# Altium footprint library STM32F407ZGT6_CORE_BOARD.PcbLib: 21 footprints (part 2 of 2)
Each footprint in its own frame and in the unit in brackets; x right, y up, seen from the top. Pads: shape width x height; smd on the part's side, far side on the other; paste and mask are expansions set on the pad; w line width, h text height; cw(c..) or ccw(c..) is an arc to the next point about the centre after c.
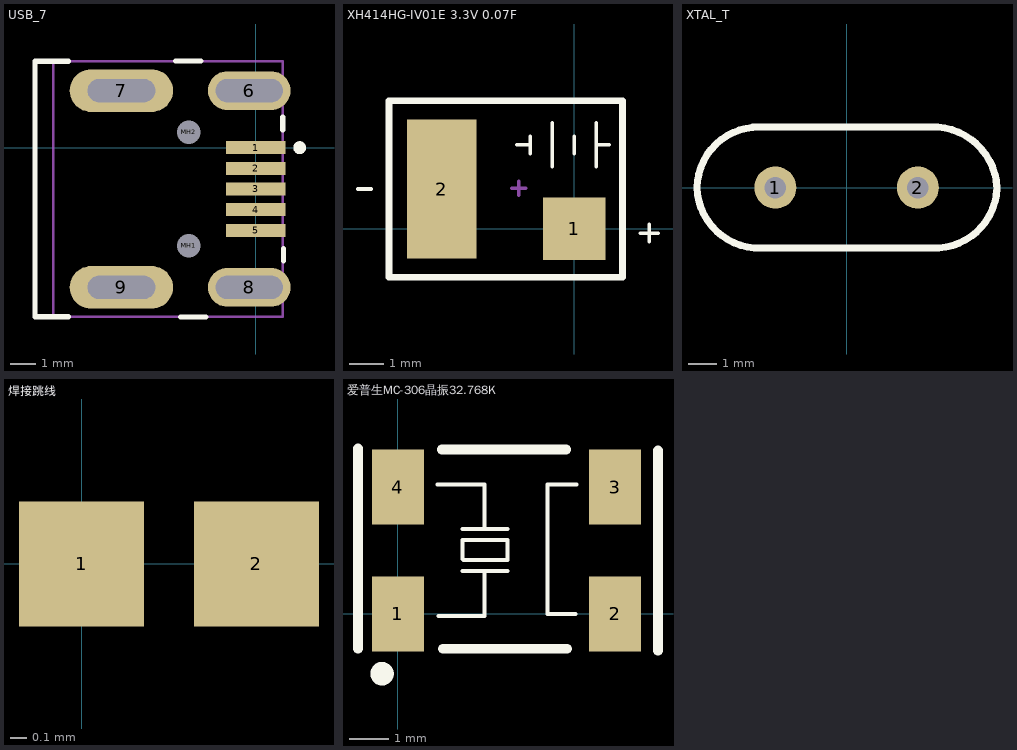
[diagram p1: the footprints below, top view; thin cyan lines are the x and y axes]

## USB_7 [mm] "4个条形过孔固定"
pads (11):
  rect 2.3x0.5 smd: 1(0,0) 2(0,-0.8) 3(0,-1.6) 4(0,-2.4) 5(0,-3.2)
  oval 3.2x1.5 hole 0.9 slot 2.6 at 0 deg: 6(-0.254,2.21) 8(-0.254,-5.41)
  oval 4x1.65 hole 0.9 slot 2.616 at 0 deg: 7(-5.207,2.21) 9(-5.207,-5.41)
  round 0.6 hole 0.9 unplated: MH1(-2.6,-3.8) MH2(-2.6,0.6)
Top Overlay:
  circle w0.25: c1.7,0 r0.125
  lines w0.2: -7.25,-6.55 -8.55,-6.55 -8.55,3.35 -7.25,3.35 ; -3.099,3.353 -2.134,3.353 ; -2.921,-6.553 -1.93,-6.553 ; 1.041,0.686 1.041,1.194 ; 1.067,-4.394 1.067,-3.912
Mechanical 1:
  lines w0.1: -7.85,-6.55 -7.85,3.35
  text "PCB Edge" at -8.282,2.436 h0.61
Mechanical 13:
  lines w0.1: -8.55,-6.55 1.05,-6.55 1.05,3.35 -8.55,3.35 -8.55,-6.55
3D body: height 3.9, standoff 0, extent -8.55,-6.55 1.05,3.35

## XH414HG-IV01E 3.3V 0.07F [mm] "3.3V 0.07法拉电容,后备电池 法拉电容"
height 1.68
pads (2):
  rect 1.8x1.8 smd: 1(0,0)
  rect 2x4 smd: 2(-3.81,1.143)
Top Overlay:
  lines w0.102: -6.223,1.143 -5.842,1.143 ; -1.651,2.413 -1.27,2.413 ; -1.27,2.159 -1.27,2.667 ; -0.635,1.778 -0.635,3.048 ; 0,2.159 0,2.667 ; 0.635,1.778 0.635,3.048 ; 0.635,2.413 1.016,2.413 ; 1.905,-0.127 2.413,-0.127 ; 2.159,-0.381 2.159,0.127
  lines w0.2: -0.4,-1.397 1.397,-1.397 1.397,3.683 -0.4,3.683 ; -0.381,-1.397 -5.334,-1.397 -5.334,3.683 -0.254,3.683
Mechanical 1:
  lines w0.1: -1.8,1.168 -1.4,1.168 ; -1.6,0.968 -1.6,1.368

## XTAL_T [mm] "2Leads,Pitch5.08mm,Hole0.762mm(30mil)"
pads (2):
  round 1.5 hole 0.762: 1(-2.54,0) 2(2.54,0)
Top Overlay:
  lines w0.254: -5.334,0 cw(c-3.137,-0.038) -3.099,2.159 2.997,2.159 cw(c3.086,-0.114) 5.359,-0.025 cw(c3.137,0.064) 3.048,-2.159 -3.048,-2.159 cw(c-3.111,0.064) -5.334,0

## 焊接跳线 [mil] "2个焊接铜箔的距离12mil,2个铜箔大小为30X30mil"
pads (2):
  rect 30x30 smd: 1(0,0) 2(42,0)

## 爱普生MC-306晶振32.768K [mil] "4Leads,Pitch3.5mm,5.5mm,贴片"
pads (4):
  rect 52x75 smd: 1(0,0) 2(218,0) 3(218,127.3) 4(0,127.3)
Top Overlay:
  circle w11.81: c-15.91,-60 r5.91
  lines w4: 40,130 87,130 87,86 ; 41,-2 87,-2 87,43 ; 65,43 110,43 ; 65,85 110,85 ; 178,0 150,0 150,130 179,130 ; 65,55 66,54 110,54 110,74 65,74 65,55
  lines w9.84: 44,165 169,165 ; 45,-35 170,-35
  lines w10: -40,-35 -40,166 ; 261,-37 261,164